# EAGLE library part ADACP2014_GOOD (library me433-2021)
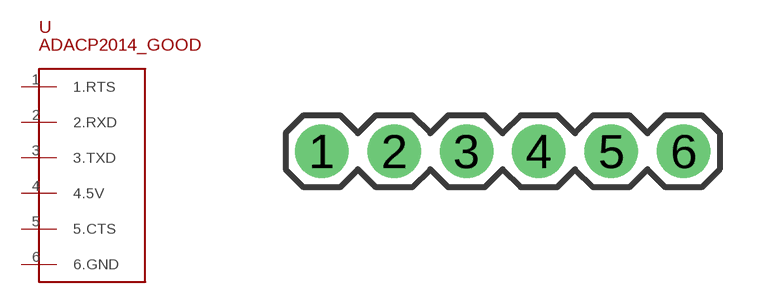
[diagram p12: symbol with the pads of 1X06; footprint 1X06]

Designator prefix -

## ADACP2014_GOOD  [1X06]
1  1.RTS
2  2.RXD
3  3.TXD
4  4.5V
5  5.CTS
6  6.GND

## Footprint 1X06 (pad centres in mm)
Plated Through Hole - 6 Pin Specifications: Pin count:6 Pin pitch:0.1" Example device(s): CONN_06
drill 1.016 pad 1.88: 1 0,0; 2 2.54,0; 3 5.08,0; 4 7.62,0; 5 10.16,0; 6 12.7,0